# EAGLE library part ECG.3B.312 (library Zoli2_2015-01-28)
LEMO Connector Source: http://www.lemo.com/pdfs/catalog/ROW/German/unipole_multipole.pdf
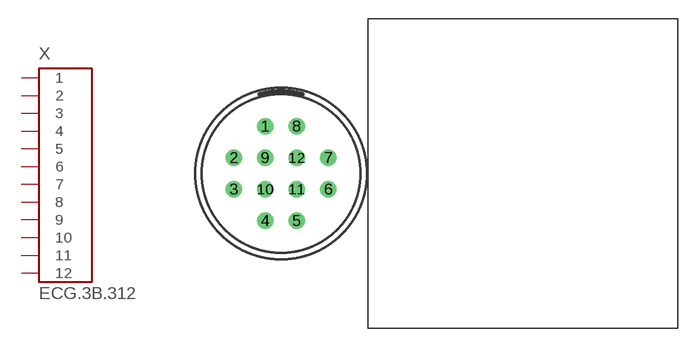
[diagram p53: symbol with the pads of ECG.3B.312.CLV; footprint ECG.3B.312.CLV]

Designator prefix X

## ECG.3B.312.CLV  [ECG.3B.312.CLV]
1  1  pas
2  2  pas
3  3  pas
4  4  pas
5  5  pas
6  6  pas
7  7  pas
8  8  pas
9  9  pas
10  10  pas
11  11  pas
12  12  pas

## Footprint ECG.3B.312.CLV (pad centres in mm)
LEMO Connector Source: http://www.lemo.com/pdfs/catalog/ROW/German/unipole_multipole.pdf
drill 0.8 pad 1.3 round: 1 -1.27,3.81; 2 -3.81,1.27; 3 -3.81,-1.27; 4 -1.27,-3.81; 5 1.27,-3.81; 6 3.81,-1.27; 7 3.81,1.27; 8 1.27,3.81; 9 -1.27,1.27; 10 -1.27,-1.27; 11 1.27,-1.27; 12 1.27,1.27